# EAGLE library part STM32F042G4U6 (library custom)
ARM Cortex-M0 STM32F0 Microcontroller IC 32-Bit 48MHz 16KB 10x12b ADC 21 GPIO USB
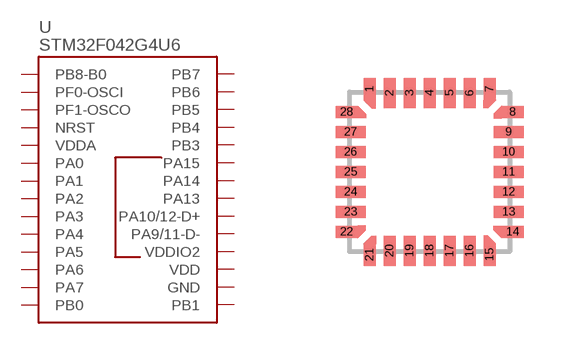
[diagram p150: symbol with the pads of UFQFPN28; footprint UFQFPN28]

Designator prefix U

## STM32F042G4U6  [UFQFPN28]
1  PB8-B0
2  PF0-OSCI
3  PF1-OSCO
4  NRST
5  VDDA
6  PA0
7  PA1
8  PA2
9  PA3
10  PA4
11  PA5
12  PA6
13  PA7
14  PB0
15  PB1
16  GND
17  VDD
18  VDDIO2
19  PA9/11-D-
20  PA10/12-D+
21  PA13
22  PA14
23  PA15
24  PB3
25  PB4
26  PB5
27  PB6
28  PB7

## Footprint UFQFPN28 (pad centres in mm)
smd 0.3 x 0.552: 1 -1.5,2.075; 7 1.5,2.075; 15 1.5,-2.075; 21 -1.5,-2.075
smd 0.3 x 0.75: 2 -1,1.975; 3 -0.5,1.975; 4 0,1.975; 5 0.5,1.975; 6 1,1.975; 16 1,-1.975; 17 0.5,-1.975; 18 0,-1.975; 19 -0.5,-1.975; 20 -1,-1.975
smd 0.552 x 0.3: 8 2.075,1.5; 14 2.075,-1.5; 22 -2.075,-1.5; 28 -2.075,1.5
smd 0.75 x 0.3: 9 1.975,1; 10 1.975,0.5; 11 1.975,0; 12 1.975,-0.5; 13 1.975,-1; 23 -1.975,-1; 24 -1.975,-0.5; 25 -1.975,0; 26 -1.975,0.5; 27 -1.975,1